# Altium integrated library ArgoFC.IntLib: 104 symbols (part 2 of 2)
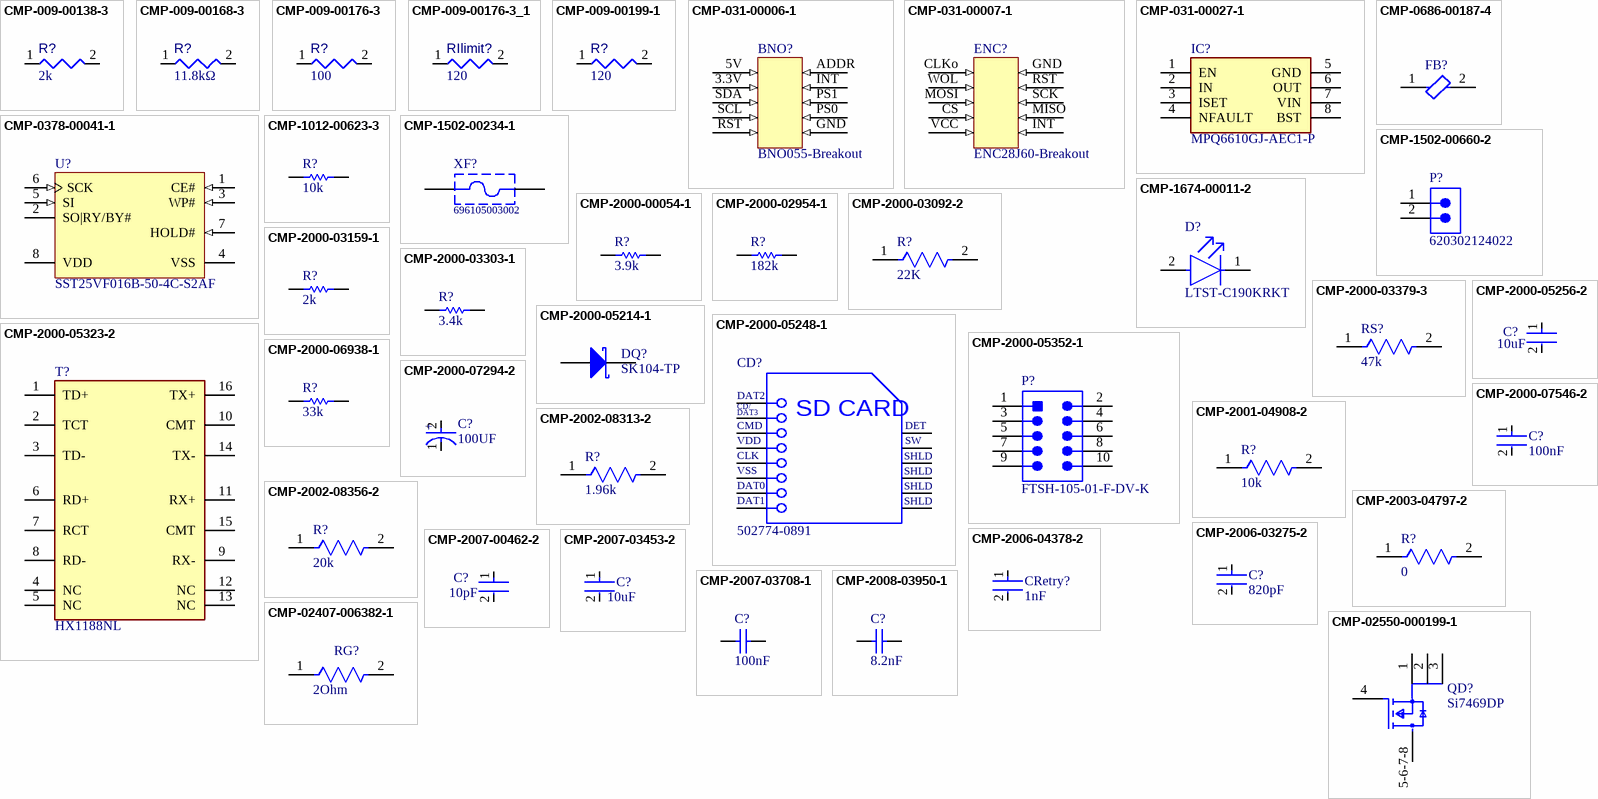
[diagram p3: symbols CMP-009-00138-3 to CMP-02550-000199-1]

## CMP-2002-08356-2
designator R?, comment 20k
RES Thick Film, 20kΩ, 1%, 0.063W, 100ppm/°C, 0402; Max Power Dissipation: 63mW; Working Voltage: 50V; Resistance: 20kR; Contact Plating: Tin; Packaging: Tape and Reel; Height: 0.35mm; Case Code (Imperial): 0402; Tolerance: 1%; Width: 0.5mm; Composition: Thick Film; Mount: Surface Mount; Termination: SMD/SMT; Number of Pins: 2; Number of Terminations: 2; Length: 1mm; Temperature Coefficient: 100ppm/°C; Case Code (Metric): 1005; Voltage Rating: 50V; Lead Free: Lead Free; Voltage Rating (DC): 50V; Min Operating Temperature: -55°C; Max Operating Temperature: 155°C; Package Quantity: 10; Radiation Hardening: No; Weight: 2.3E-05oz; Military Standard: Not; Case/Package: 0402; Power Rating: 63mW; Depth: 0.5mm; Features: Automotive AEC-Q200
footprint FP-CRCW0402-e3-IPC_B
footprint FP-CRCW0402-e3-IPC_A
footprint FP-CRCW0402-e3-IPC_C
footprint FP-CRCW0402-e3-MFG
pins: 1, 2

## CMP-2003-04797-2
designator R?, comment 0
RES Thick Film, 0Ω, 0.25W, 1206; Voltage Rating: 200V; Power Rating: 250mW; Resistance: 0mR; Depth: 1.6mm; Case/Package: 1206; Termination: SMD/SMT; Military Standard: Not; Length: 3.2mm; Height: 0.024inch; Number of Terminations: 2; Case Code (Metric): 3216; Width: 0.063inch; Features: Automotive AEC-Q200; Max Operating Temperature: 155°C; Min Operating Temperature: -55°C; Voltage Rating (DC): 200V; Contact Plating: Tin; Max Power Dissipation: 250mW; Radiation Hardening: No; Packaging: Tape and Reel; Package Quantity: 10000; Composition: Thick Film; Weight: 0.000353oz; Case Code (Imperial): 1206; Lead Free: Lead Free
footprint FP-CRCW1206-e3-MFG
footprint FP-CRCW1206-e3-IPC_B
footprint FP-CRCW1206-e3-IPC_C
footprint FP-CRCW1206-e3-IPC_A
pins: 1, 2

## CMP-2006-03275-2
designator C?, comment 820pF
C0603C 820pF Ceramic Multilayer Capacitor; 50 VDC; +125degC; X7R Dielec; +/-10%; Manufacturer Part Number: C0603C821K5RACTU; Manufacturer: KEMET; Voltage Rating: 50 V; Tolerance: 0.1; Automotive Grade: Grade 1; Temperature Coefficient: 30ppm/°C; Material: Ceramic; Temperature: -55°C to +125°C; Value: 820 pF; Temperature Range High: +125°C; ComponentLink2URL: https://api.kemet.com/component-edge/download/datasheet/C0603C100J5GACAUTO.pdf; Digikey Description: C0603C 820pF Ceramic Multilayer Capacitor; 50 VDC; +125degC; X7R Dielec; +/-10%; Mouser Description: C0603C 820pF Ceramic Multilayer Capacitor, 50 VDC, +125degC, X7R Dielec, +/-10%; Temperature Range Low: -55°C; Height: 0.87mm; Octopart: https://octopart.com/c0603c821k5ractu-kemet-129686; Capacitance: 820 pF; Package: C0603C-CF; RoHS: TRUE; Device Class L1: Passive Components; ComponentLink2Description: Datasheet; Automotive: Yes; Device Class L3: Ceramic Capacitors; Device Class L2: Capacitors; Category: Cap; Temperature Characteristic: X7R; Lead Free: Yes
footprint FP-C0603C-CF-MFG
footprint FP-C0603C-CF-IPC_C
footprint FP-C0603C-CF-IPC_B
footprint FP-C0603C-CF-IPC_A
pins: 1, 2

## CMP-2006-04378-2
designator CRetry?, comment 1nF
General Purpose Ceramic Capacitor, 0603, 1nF, 10%, X7R, 15%, 50V; Case Code (Metric): 1608; Min Operating Temperature: -55°C; Weight: 7.1E-05oz; Series: -; Capacitance: 1nF; RoHS Compliant: Yes; Radiation Hardening: No; Height: 0.9mm; Mount: Surface Mount; REACH SVHC: No SVHC; Lead Free: Lead Free; Depth: 0.81mm; Voltage: 50V; Number of Pins: 2; Voltage Rating: 50V; Max Operating Temperature: 125°C; Termination: SMD/SMT; Construction: Flat; Case Code (Imperial): 0603; Dielectric: X7R; Width: 0.032inch; Tolerance: 10%; Case/Package: 0603; Contact Plating: Tin; Packaging: Tape and Reel; Voltage Rating (DC): 50V; Dielectric Material: Ceramic; Package Quantity: 4000; Thickness: 0.035inch; Length: 1.6mm
footprint FP-0603-L_1_6_0_15-W_0_81-IPC_A
footprint FP-0603-L_1_6_0_15-W_0_81-MFG
footprint FP-0603-L_1_6_0_15-W_0_81-IPC_B
footprint FP-0603-L_1_6_0_15-W_0_81-IPC_C
pins: 1, 2

## CMP-2007-00462-2
designator C?, comment 10pF
CAP CER 10PF 50V 10% NP0 0805C0805C100K5GACTU; Manufacturer: KEMET; Temperature Characteristic: C0G; Material: Ceramic; Temperature Coefficient: 30ppm/°C; Tolerance: 0.1; Package: C0805C-DN; Device Class L2: Capacitors; Mouser Description: Multilayer Ceramic Capacitors MLCC - SMD/SMT 50volts 10pF C0G 10%; ComponentLink2URL: https://content.kemet.com/datasheets/KEM_C1003_C0G_SMD.pdf; Automotive: No; Device Class L3: Ceramic Capacitors; Temperature: -55°C to +125°C; Manufacturer Part Number: C0805C100K5GACTU; Digikey Description: CAP CER 10PF 50V 10% NP0 0805; RoHS: TRUE; Temperature Range High: +125°C; Value: 10 pF; Capacitance: 10 pF; Category: Cap; Voltage Rating: 50 V; Octopart: https://octopart.com/c0805c100k5gactu-kemet-8089747; Height: 0.88mm; Lead Free: Yes; Ipc Land Pattern Name: CAPC200125X78; Temperature Range Low: -55°C; Device Class L1: Passive Components; ComponentLink2Description: Datasheet
footprint FP-C0805C-DN-MFG
footprint FP-C0805C-DN-IPC_C
footprint FP-C0805C-DN-IPC_B
footprint FP-C0805C-DN-IPC_A
pins: 1, 2

## CMP-2007-03453-2
designator C?, comment 10uF
Chip Multilayer Ceramic Capacitors for General Purpose, 0805, 10uF, X5R, 15%, 10%, 25V; Voltage Rating (DC): 16V; Radiation Hardening: No; Thickness: 0.053inch; Lead Free: Lead Free; Package Quantity: 1; Width: 1.25mm; Case Code (Imperial): 0805; Depth: 1.25mm; Packaging: Tape and Reel; Dielectric: X5R; Max Operating Temperature: 85°C; Tolerance: 10%; Voltage Rating: 16V; Voltage: 16V; Capacitance: 10uF; Height: 1.25mm; Case Code (Metric): 2012; Material: Ceramic; Mount: Surface Mount; Case/Package: 0805; REACH SVHC: No SVHC; Length: 2mm; Min Operating Temperature: -55°C; Termination: SMD/SMT
footprint FP-GRM21B-0_1-IPC_C
footprint FP-GRM21B-0_1-MFG
footprint FP-GRM21B-0_1-IPC_A
footprint FP-GRM21B-0_1-IPC_B
pins: 1, 2

## CMP-2007-03708-1
designator C?, comment 100nF
C0805F103K5RACTU 10000 pF ±10% 50V Ceramic Capacitor X7R 0805 (2012 Metric); Manufacturer: Kemet; Part Number: C0805F103K5RACTU
footprint CAPC2013X100X50NL20T25 (Chip Capacitor, 2-Leads, Body 2.00x1.25mm, IPC Medium Density)
footprint CAPC2013X100X50LL20T25 (Chip Capacitor, 2-Leads, Body 2.00x1.25mm, IPC High Density)
footprint CAPC2013X100X50ML20T25 (Chip Capacitor, 2-Leads, Body 2.00x1.25mm, IPC Low Density)
pins: 1, 2
1 alternate drawing of the same symbol

## CMP-2008-03950-1
designator C?, comment 8.2nF
GRM155R71C822KA01D 0402  8.2nF; Manufacturer: Murata; Part Number: GRM155R71C822KA01D
footprint CAPC1005X55X25NL05T10 (Chip Capacitor, 2-Leads, Body 1.00x0.50mm, IPC Medium Density)
footprint CAPC1005X55X25LL05T10 (Chip Capacitor, 2-Leads, Body 1.00x0.50mm, IPC High Density)
footprint CAPC1005X55X25ML05T10 (Chip Capacitor, 2-Leads, Body 1.00x0.50mm, IPC Low Density)
pins: 1, 2
1 alternate drawing of the same symbol

## CMP-02407-006382-1
designator RG?, comment 2Ohm
RES Thick Film, 2Ω, 5%, 1W, 200ppm/°C, 2512; Voltage Rating (DC): 500V; Resistance: 2R; Max Power Dissipation: 1W; Case Code (Imperial): 2512; Depth: 3.15mm; Tolerance: 5%; Temperature Coefficient: 200ppm/°C; Lead Free: Lead Free; Length: 6.3mm; Number of Pins: 2; Military Standard: Not; Min Operating Temperature: -55°C; Height: 0.6mm; Packaging: Tape and Reel; Contact Plating: Tin; Power Rating: 1W; Number of Terminations: 2; Package Quantity: 1; Weight: 0.001429oz; Case Code (Metric): 6432; Termination: SMD/SMT; Features: Automotive AEC-Q200; Radiation Hardening: No; Case/Package: 2512; Composition: Thick Film; Voltage Rating: 500V; Width: 0.124inch; Max Operating Temperature: 155°C
footprint FP-CRCW2512-e3-IPC_C
footprint FP-CRCW2512-e3-MFG
footprint FP-CRCW2512-e3-IPC_A
footprint FP-CRCW2512-e3-IPC_B
pins: 1, 2

## CMP-02550-000199-1
designator QD?, comment Si7469DP
Use Si7469DP For PCBA. MOSFET P-CH 40V 11A PPAK SO-8; Manufacturer: Vishay; Manufacturer Part Number: SI7463DP-T1-E3; Depletion Mode: False; Number Of Channels: 1; Pulse Drain Current: -60A; Typ Forward Diode Voltage: -0.8V; Drain To Source Voltage: -40V; Rthja Max: 52°C/W; Turn On Delay Time: 20ns; Continuous Drain Current: -11A; Max Junction Temp: +150°C; Gate Charge At Vgs: 121nC @ -10V; Max Forward Diode Voltage: -1.2V; Reverse Recovery Time: 45ns; Gate To Source Voltage: 20V; Threshold Vgs Min: -1V; Standoff Height: 0mm; Turn Off Delay Time: 200ns; Threshold Vgs Max: -3V; Transconductance: 50S; Drain To Source Resistance: 0.0075Ω; Power Dissipation: 1.9W; Temperature Range Low: -55°C; Lead Free: Yes; Device Class L3: MOSFETs; Automotive: No; Digikey Description: MOSFET P-CH 40V 11A PPAK SO-8; ComponentLink2Description: Datasheet; Octopart: https://octopart.com/si7463dp-t1-e3-vishay-42065245; Number Of P Channels: 1; Device Class L1: Discrete Semiconductors; ComponentLink2URL: http://www.vishay.com/docs/72440/si7463dp.pdf; Device Class L2: Transistors; RoHS: TRUE; Category: Trans; Mouser Description: MOSFET 40V 18.6A 5.4W 9.2mohm @ 10V; Package: S17-0173-SINGLE; Height: 1.17mm; Temperature Range High: +150°C; Temperature: -55°C to +150°C
footprint FP-S17-0173-SINGLE-MFG
pins: 1 S, 2 S, 3 S, 4 G, 5-6-7-8 D

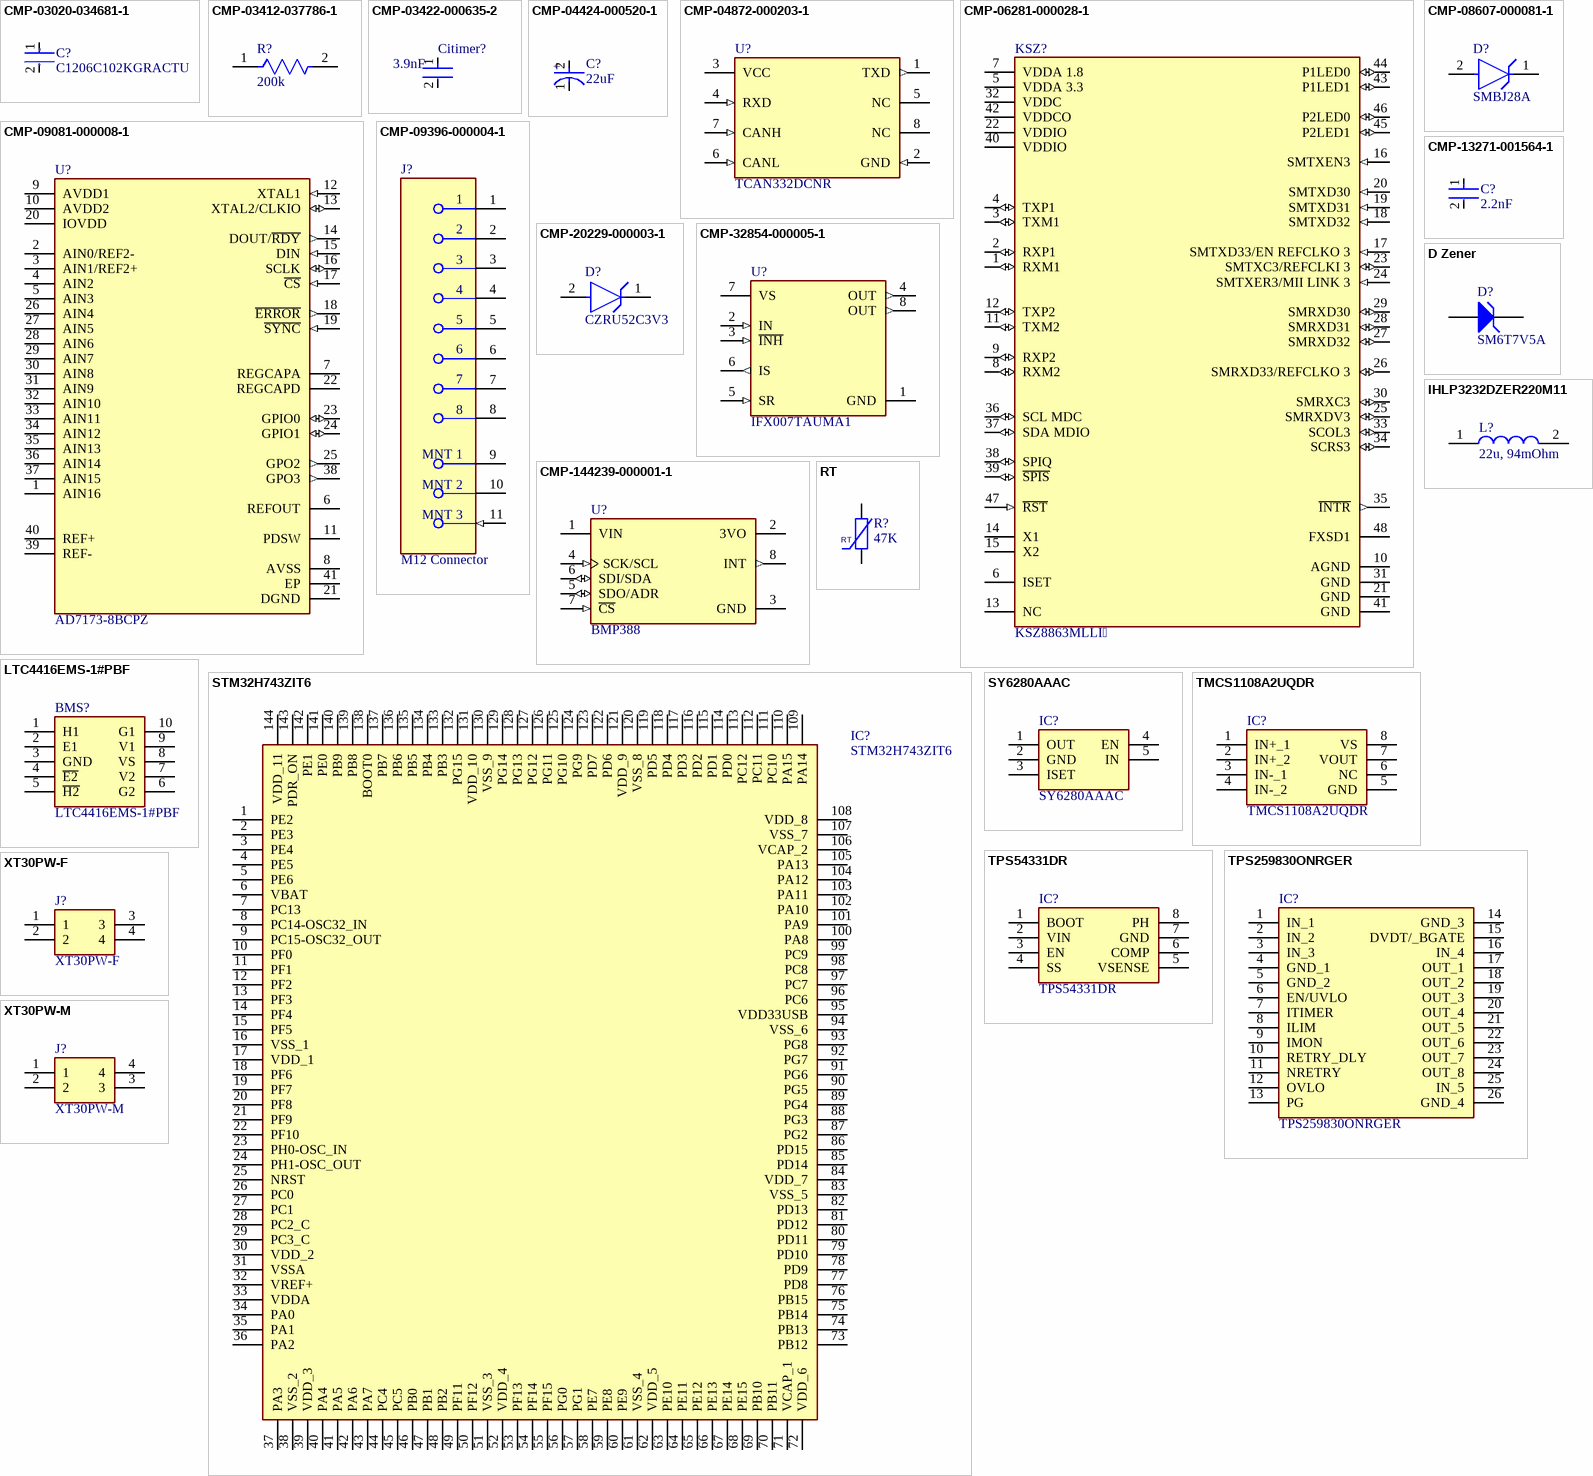
[diagram p2: symbols CMP-03020-034681-1 to XT30PW-M]

## CMP-03020-034681-1
designator C?, comment C1206C102KGRACTU
CAP CER 1000PF 2KV X7R 1206; Tolerance: 10%; Capacitance: 1nF; Dissipation Factor: 2.5%; Dielectric Material: Ceramic; Voltage Rating (DC): 2.5kV; Voltage: 2kV; REACH SVHC: No SVHC; Height: 1.6mm; Construction: Flat; Case/Package: 1206; Series: C; Mount: Surface Mount; RoHS Compliant: Yes; Package Quantity: 1; Length: 3.2mm; Width: 0.063inch; Voltage Rating: 2kV; Min Operating Temperature: -55°C; Case Code (Metric): 3216; Termination: SMD/SMT; Number of Pins: 2; Case Code (Imperial): 1206; Packaging: Tape and Reel; Dielectric: X7R; Thickness: 0.069inch; Depth: 1.6mm; Radiation Hardening: No; Max Operating Temperature: 125°C
footprint FP-C1206C-EF-MFG
footprint FP-C1206C-EF-IPC_C
footprint FP-C1206C-EF-IPC_B
footprint FP-C1206C-EF-IPC_A
pins: 1, 2

## CMP-03412-037786-1
designator R?, comment 200k
RES SMD 200K OHM 1% 1/10W 0603; Temperature Coefficient: 100ppm/°C; Voltage Rating: 50V; Resistance: 200kR; Max Power Dissipation: 100mW; Packaging: Tape and Reel; REACH SVHC: No SVHC; Resistance Tolerance: 1%; Number of Pins: 2; Width: 0.031inch; Termination: SMD/SMT; Features: Moisture Resistant; Tolerance: 1%; Series: RC; Case Code (Imperial): 0603; Depth: 0.8mm; Number of Terminations: 2; Max Operating Temperature: 155°C; Resistor Type: Thick Film; Height: 0.022inch; Lead Free: Lead Free; Construction: Rectangular; Case/Package: 0603; Power Rating: 100mW; Case Code (Metric): 1608; Length: 1.6mm; Size Code: 0603; RoHS Compliant: Yes; Military Standard: Not; Min Operating Temperature: -55°C; Package Quantity: 1; Voltage Rating (DC): 50V
footprint FP-RC0603-0_55-IPC_B
footprint FP-RC0603-0_55-MFG
footprint FP-RC0603-0_55-IPC_A
footprint FP-RC0603-0_55-IPC_C
pins: 1, 2

## CMP-03422-000635-2
designator Citimer?, comment 3.9nF
CAP CER 3900PF 50V X7R 0603; Tolerance: 10%; Dielectric Material: Ceramic; Insulation Resistance: 100GR; Height: 0.8mm; Voltage Rating: 50V; Termination: SMD/SMT; REACH SVHC: No SVHC; Resistor Type: Ceramic; Radiation Hardening: No; Case Code (Imperial): 0603; Voltage: 50V; Series: CC; Mount: Surface Mount; Length: 1.6mm; RoHS Compliant: Yes; Lead Free: Lead Free; Capacitance: 3.9nF; Width: 0.8mm; Package Quantity: 4000; Packaging: Tape and Reel; Dielectric: X7R; Voltage Rating (DC): 50V; Min Operating Temperature: -55°C; Depth: 0.8mm; Halogen Free: Halogen Free; Case/Package: 0603; Thickness: 0.035inch; Number of Pins: 2; Max Operating Temperature: 125°C; Case Code (Metric): 1608; Construction: Flat
footprint FP-CC0603-DA-MFG
footprint FP-CC0603-DA-IPC_B
footprint FP-CC0603-DA-IPC_A
footprint FP-CC0603-DA-IPC_C
pins: 1, 2

## CMP-04424-000520-1
designator C?, comment 22uF
22uF 20V  ±10% 1.8Ω 1210  SMD Tantalum Capacitor     TAJB226K020RNJ; Polarity: Polar; ESR (Equivalent Series Resistance): 1.8R; Leakage Current: 4.4uA; Dissipation Factor: 6%; Tolerance: 10%; Voltage Rating (DC): 20V; Dielectric Material: Tantalum; Mount: Surface Mount; Width: 2.8mm; Termination: SMD/SMT; Min Operating Temperature: -55°C; Case Code (Imperial): 1210; Height: 1.9mm; Series: TAJ; Capacitance: 22uF; Voltage: 20V; Depth: 2.8mm; RoHS Compliant: Yes; Lead Free: Lead Free; Height - Seated (Max): 0.083inch; Packaging: Tape and Reel; Case Code (Metric): 3528; Number of Pins: 2; REACH SVHC: No SVHC; Package Quantity: 1; Construction: Flat; Radiation Hardening: No; Features: General Purpose; Max Operating Temperature: 125°C; Case/Package: 1210; Voltage Rating: 20V; Length: 3.5mm
footprint FP-TAJB-MFG
pins: 1 C, 2 A
text: +

## CMP-04872-000203-1
designator U?, comment TCAN332DCNR
IC TRANSCEIVER 1/1 SOT23-8; Receiver Hysteresis: 120mV; Packaging: Tape and Reel; Mount: Surface Mount; RoHS Compliant: Yes; Min Operating Temperature: -40°C; Case/Package: SOT-23-8; Lead Free: Lead Free; Max Operating Temperature: 125°C
footprint FP-DCN0008A-IPC_A
footprint FP-DCN0008A-MFG
footprint FP-DCN0008A-IPC_C
footprint FP-DCN0008A-IPC_B
pins: 1 TXD (out), 2 GND (in), 3 VCC (power), 4 RXD (in), 5 NC, 6 CANL (in), 7 CANH (in), 8 NC

## CMP-06281-000028-1
designator KSZ?, comment KSZ8863MLLI
IC ETHERNET SWITCH 3PORT 48-LQFP; Max Supply Voltage: 3.465V; Max Supply Current: 112mA; Nominal Supply Current: 85mA; Interface: I2C; Min Supply Voltage: 1.71V; Number of Functions: 3; Operating Supply Voltage: 3.3V; Number of Transceivers: 1; Data Rate: 100Mbps; Max Operating Temperature: 85°C; Height: 1.3mm; Length: 7.1mm; Min Operating Temperature: -40°C; RoHS Compliant: Yes; Width: 7.1mm; Mount: Surface Mount; Series: -; Package Quantity: 250; Supply Current: 85mA; REACH SVHC: No SVHC; Lead Free: Lead Free; Number of Ports: 3; Number of Pins: 48; Supply Voltage-Nom: 3.3V; Radiation Hardening: No; Packaging: Tray; Case/Package: LQFP
footprint FP-LQFP7x7-48LD-PL-1-MFG
footprint FP-LQFP7x7-48LD-PL-1-IPC_C
footprint FP-LQFP7x7-48LD-PL-1-IPC_B
footprint FP-LQFP7x7-48LD-PL-1-IPC_A
pins: 1 RXM1 (io), 2 RXP1 (io), 3 TXM1 (io), 4 TXP1 (io), 5 VDDA 3.3 (power), 6 ISET, 7 VDDA 1.8 (power), 8 RXM2 (io), 9 RXP2 (io), 10 AGND (power), 11 TXM2 (io), 12 TXP2 (io), 13 NC, 14 X1, 15 X2, 16 SMTXEN3 (in), 17 SMTXD33/EN REFCLKO 3 (in), 18 SMTXD32 (in), 19 SMTXD31 (in), 20 SMTXD30 (in), 21 GND (power), 22 VDDIO (power), 23 SMTXC3/REFCLKI 3 (io), 24 SMTXER3/MII LINK 3 (in), 25 SMRXDV3 (io), 26 SMRXD33/REFCLKO 3 (io), 27 SMRXD32 (io), 28 SMRXD31 (io), 29 SMRXD30 (io), 30 SMRXC3 (io), 31 GND (power), 32 VDDC (power), 33 SCOL3 (io), 34 SCRS3 (io), 35 ~{INTR} (out), 36 SCL MDC (io), 37 SDA MDIO (io), 38 SPIQ (io), 39 ~{SPIS} (io), 40 VDDIO (power), 41 GND (power), 42 VDDCO (power), 43 P1LED1 (io), 44 P1LED0 (io), 45 P2LED1 (io), 46 P2LED0 (io), 47 ~{RST} (in), 48 FXSD1

## CMP-08607-000081-1
designator D?, comment SMBJ28A
TVS DIODE 28V 45.4V DO214AA; Manufacturer: Littelfuse Inc; Breakdown Voltage: 31.1V; Direction: Unidirectional; Number Of Channels: 1; Peak Pulse Power: 600W; Max Junction Temp: +150°C; Peak Pulse Current: 13.3A; Temperature: -65°C to +150°C; Category: Diode; RoHS: TRUE; Height: 2.61mm; Reverse Standoff Voltage: 28V; Device Class L1: Circuit Protection; Temperature Range Low: -65°C; ComponentLink2Description: Datasheet; Digikey Description: TVS DIODE 28V 45.4V DO214AA; Automotive: No; Package: SMBJ; Mouser Description: Littelfuse SMBJ28A, Uni-Directional TVS Diode, 600W, 2-Pin DO-214AA; ComponentLink2URL: https://www.littelfuse.com/~/media/electronics/datasheets/tvs_diodes/littelfuse_tvs_diode_smbj_datasheet.pdf.pdf; Manufacturer Part Number: SMBJ28A; Octopart: https://octopart.com/smbj28a-littelfuse-350790; Clamping Voltage: 45.4V; Temperature Range High: +150°C; Device Class L3: unset; Device Class L2: TVS Diodes; Lead Free: Yes
footprint FP-SMBJ-MFG
pins: 1 C, 2 A

## CMP-09081-000008-1
designator U?, comment AD7173-8BCPZ
IC ADC 24BIT SIGMA-DELTA 40LFCSP; Max Power Dissipation: 28mW; Interface: SPI; Number of A/D Converters: 1; Min Input Voltage: 2.5V; Max Supply Voltage: 5.5V; Min Supply Voltage: 2V; Operating Supply Voltage: 5V; Nominal Supply Current: 2.12mA; Number of Channels: 16; Number of Bits: 24; Output Type: TTL; Power Dissipation: 9.96mW; Sampling Rate: 31.25KS/s; Supply Type: Single; Polarity: Bipolar; Resolution: 24b; Number of Pins: 40; Max Input Voltage: 2.5V; Reference Voltage: 2.5V; Package Quantity: 490; Packaging: Tray; Lead Free: Contains Lead; Min Operating Temperature: -40°C; Mount: Surface Mount; Max Operating Temperature: 105°C; Length: 6.1mm; Contact Plating: Tin; Number of Converters: 1; Case/Package: LFCSP EP; Height: 0.75mm; Width: 6.1mm; Number of Elements: 1; REACH SVHC: No SVHC
footprint FP-CP-40-14-IPC_C
footprint FP-CP-40-14-IPC_B
footprint FP-CP-40-14-IPC_A
pins: 1 AIN16, 2 AIN0/REF2-, 3 AIN1/REF2+, 4 AIN2, 5 AIN3, 6 REFOUT, 7 REGCAPA, 8 AVSS (power), 9 AVDD1 (power), 10 AVDD2 (power), 11 PDSW, 12 XTAL1 (in), 13 XTAL2/CLKIO (io), 14 DOUT/~{RDY} (out), 15 DIN (in), 16 SCLK (io), 17 ~{CS} (in), 18 ~{ERROR} (out), 19 ~{SYNC} (in), 20 IOVDD (power), 21 DGND (power), 22 REGCAPD, 23 GPIO0 (io), 24 GPIO1 (io), 25 GPO2 (out), 26 AIN4, 27 AIN5, 28 AIN6, 29 AIN7, 30 AIN8, 31 AIN9, 32 AIN10, 33 AIN11, 34 AIN12, 35 AIN13, 36 AIN14, 37 AIN15, 38 GPO3 (out), 39 REF-, 40 REF+, 41 EP

## CMP-09396-000004-1
designator J?, comment M12 Connector
CONN RCPT FMALE 8POS GOLD SOLDER; Number of Positions: 8; Voltage Rating: 48V; Ratings: IP67; Current Rating: 500mA; Gender: Female; Wire/Cable Diameter: 6mm; Connector Type: Receptacle; Fastening Type: Twist; Packaging: Bulk; Housing Material: Zinc; Contact Plating: Gold; Lead Free: Lead Free; REACH SVHC: No SVHC; Orientation: Straight; Max Operating Temperature: 70°C; Mount: Panel; Number of Contacts: 8; Termination: Solder; Series: PLUSCON; Min Operating Temperature: -40°C; Thread Size: M12; Package Quantity: 20; Contact Gender: Female
footprint FP-1424177-MFG
pins: 1, 2, 3, 4, 5, 6, 7, 8, 9 MNT 1, 10 MNT 2, 11 MNT 3 (in)

## CMP-13271-001564-1
designator C?, comment 2.2nF
CL21 Series 0805 2.2nF 50V ±5% Tolerance C0G Multilayer Ceramic Chip Capacitor CL21C222JBFNNNE; Mount: Surface Mount; Packaging: Tape and Reel; Tolerance: 5%; Thickness: 0.053inch; Case Code (Imperial): 0805; Capacitance: 2.2nF; Min Operating Temperature: -55°C; Width: 0.049inch; Package Quantity: 2000; Depth: 1.25mm; Radiation Hardening: No; Voltage Rating (DC): 50V; Case/Package: 0805; Voltage: 50V; Max Operating Temperature: 125°C; Case Code (Metric): 2012; Voltage Rating: 50V; Length: 2mm; Dielectric: C0G; Height: 1.25mm; Lead Free: Lead Free
footprint FP-CL21-IPC_C
footprint FP-CL21-IPC_A
footprint FP-CL21-IPC_B
pins: 1, 2

## CMP-20229-000003-1
designator D?, comment CZRU52C3V3
DIODE ZENER 3.3V 150MW 0603; Zener Current: 5mA; Tolerance: 5%; Output Current: 500mA; Impedance: 95R; Element Configuration: Single; Max Reverse Leakage Current: 25uA; Max Operating Temperature: 125°C; Max Power Dissipation: 150mW; Power Rating: 150mW; Lead Free: Lead Free; Mount: Surface Mount; Packaging: Tape and Reel; Voltage Tolerance: 5%; Power Dissipation: 150mW; Zener Voltage: 3.3V; Min Operating Temperature: -55°C; Case/Package: SMD/SMT; Voltage Rating (DC): 3.3V; Package Quantity: 1
footprint FP-0603-SOD-523F-MFG
pins: 1 C, 2 A

## CMP-32854-000005-1
designator U?, comment IFX007TAUMA1
IC HALF-BRIDGE DRVR 2 CH TO263; Manufacturer: Infineon; Number Of Outputs: 1; Nominal Supply Current: 2.3mA; Min Supply Voltage: 8V; Standoff Height: 0.1mm; Max Junction Temp: +150°C; Max Supply Voltage: 40V; Temperature: -40°C to +150°C; ComponentLink2Description: Datasheet; Category: IC; Mouser Description: integrated high current half bridge for motor drive applications; Automotive: No; Digikey Description: IC HALF-BRIDGE DRVR 2 CH TO263; Height: 4.5mm; Package: PG-TO263-7; ComponentLink2URL: https://www.infineon.com/dgdl/Infineon-IFX007T-DS-v01_00-EN.pdf?fileId=5546d46265f064ff0166433484070b75; RoHS: TRUE; Device Class L3: Motor Drivers; Manufacturer Part Number: IFX007TAUMA1; Device Class L2: Power Management ICs; Temperature Range Low: -40°C; Lead Free: Yes; Footprint Url: https://www.infineon.com/cms/en/product/packages/PG-TO263/PG-TO263-7-1/; Octopart: https://octopart.com/ifx007tauma1-infineon-94578162; Temperature Range High: +150°C; Device Class L1: Integrated Circuits (ICs)
footprint FP-PG-TO263-7-MFG
pins: 1 GND (power), 2 IN (in), 3 ~{INH} (in), 4 OUT (out), 5 SR (in), 6 IS (out), 7 VS (power), 8 OUT (out)

## CMP-144239-000001-1
designator U?, comment BMP388
BMP388 - PRECISION BAROMETRIC PR
footprint FP-3966-MFG
pins: 1 VIN (power), 2 3VO (power), 3 GND (power), 4 SCK/SCL (in), 5 SDO/ADR (io), 6 SDI/SDA (io), 7 ~{CS} (in), 8 INT (out)

## D Zener
designator D?, comment SM6T7V5A
Zener Diode; Published: 8-Jun-2000; LatestRevisionDate: 17-Jul-2002; LatestRevisionNote: Re-released for DXP Platform.; PackageReference: SMB; Publisher: Altium Limited; PackageDescription: SMB
footprint SMB (DO-214-AA/SMB; 2 C-Bend Leads; Body 5.3 x 3.6 mm, inc. leads (LxW))
simulation model ZENER (Diode)
signal-integrity model D Zener
pins: 1 A, 2 K

## IHLP3232DZER220M11
designator L?, comment 22u, 94mOhm
Inductor， IHLP3232DZER220M11, 3.3A sat; Manufacturer_Name: Vishay; Datasheet Link: http://uk.rs-online.com/web/p/products/8523797; Height: 4mm; Manufacturer_Part_Number: IHLP3232DZER220M11; Mouser Part Number: 70-IHLP3232DZER220M1; Mouser Price/Stock: https://www.mouser.co.uk/ProductDetail/Vishay-Dale/IHLP3232DZER220M11?qs=Nbmv7C3%2FzlDWnanygNMaBQ%3D%3D; Arrow Part Number: IHLP3232DZER220M11; Arrow Price/Stock: https://www.arrow.com/en/products/ihlp3232dzer220m11/vishay?utm_currency=USD&region=nac
footprint INDPM8682X400N
pins: 1, 2

## LTC4416EMS-1#PBF
designator BMS?
Integrated Circuit; Manufacturer_Name: Analog Devices; Datasheet Link: https://www.analog.com/media/en/technical-documentation/data-sheets/4416fa.pdf; Height: 1.1mm; Manufacturer_Part_Number: LTC4416EMS-1#PBF; Mouser Part Number: 584-LTC4416EMS-1#PBF; Mouser Price/Stock: https://www.mouser.co.uk/ProductDetail/Analog-Devices/LTC4416EMS-1PBF?qs=hVkxg5c3xu9mDay6QbsUoQ%3D%3D; Arrow Part Number: LTC4416EMS-1#PBF; Arrow Price/Stock: https://www.arrow.com/en/products/ltc4416ems-1pbf/analog-devices?region=nac
footprint SOP50P490X110-10N
pins: 1 H1, 2 E1, 3 GND, 4 ~{E2}, 5 ~{H2}, 6 G2, 7 V2, 8 VS, 9 V1, 10 G1

## RT
designator R?, comment 47K
热敏电阻; BOM名称: 压敏电阻; 版权归属: 封装库来自淘宝 ID：黄晶宝石; 联系售后: https://item.taobao.com/item.htm?id=566775463719; 封装库来自淘宝卖家 ID：黄晶宝石: https://shop463601444.taobao.com
footprint R0805-HP_L (1/8W高精度贴片电阻)
footprint R0402-HP_L (1/16W高精度贴片电阻       淘宝ID:黄晶宝石)
pins: 1, 2

## STM32H743ZIT6
designator IC?
Integrated Circuit / https://www.allelcoelec.com/productdetails/STMicroelectronics/STM32H743ZIT6.html?gad_source=1&gad_campaignid=21002909653&gclid=CjwKCAjw4efDBhATEiwAaDBpbvLpcbmne3WKOXgEcIaqaVpz5lcgSvxb9vCyHUjI6dfgnmkW9JZCHhoCY-cQAvD_BwE; Datasheet Link: https://www.st.com/resource/en/datasheet/stm32h743zi.pdf; Height: 1.6mm; Manufacturer_Name: STMicroelectronics; Manufacturer_Part_Number: STM32H743ZIT6; Mouser Part Number: 511-STM32H743ZIT6; Mouser Price/Stock: https://www.mouser.co.uk/ProductDetail/STMicroelectronics/STM32H743ZIT6?qs=FNcb6ahWXRyuf15GdgTu%252Bw%3D%3D; Arrow Part Number: STM32H743ZIT6; Arrow Price/Stock: https://www.arrow.com/en/products/stm32h743zit6/stmicroelectronics?utm_currency=USD&region=nac
footprint QFP50P2200X2200X160-144N
pins: 1 PE2 (power), 2 PE3, 3 PE4, 4 PE5, 5 PE6, 6 VBAT, 7 PC13, 8 PC14-OSC32_IN, 9 PC15-OSC32_OUT, 10 PF0, 11 PF1, 12 PF2, 13 PF3, 14 PF4, 15 PF5, 16 VSS_1, 17 VDD_1, 18 PF6, 19 PF7, 20 PF8, 21 PF9, 22 PF10, 23 PH0-OSC_IN, 24 PH1-OSC_OUT, 25 NRST, 26 PC0, 27 PC1, 28 PC2_C, 29 PC3_C, 30 VDD_2, 31 VSSA, 32 VREF+, 33 VDDA, 34 PA0, 35 PA1, 36 PA2, 37 PA3, 38 VSS_2, 39 VDD_3, 40 PA4, 41 PA5, 42 PA6, 43 PA7, 44 PC4, 45 PC5, 46 PB0, 47 PB1, 48 PB2, 49 PF11, 50 PF12, 51 VSS_3, 52 VDD_4, 53 PF13, 54 PF14, 55 PF15, 56 PG0, 57 PG1, 58 PE7, 59 PE8, 60 PE9, 61 VSS_4, 62 VDD_5, 63 PE10, 64 PE11, 65 PE12, 66 PE13, 67 PE14, 68 PE15, 69 PB10, 70 PB11, 71 VCAP_1, 72 VDD_6, 73 PB12, 74 PB13, 75 PB14, 76 PB15, 77 PD8, 78 PD9, 79 PD10, 80 PD11, 81 PD12, 82 PD13, 83 VSS_5, 84 VDD_7, 85 PD14, 86 PD15, 87 PG2, 88 PG3, 89 PG4, 90 PG5, 91 PG6, 92 PG7, 93 PG8, 94 VSS_6, 95 VDD33USB, 96 PC6, 97 PC7, 98 PC8, 99 PC9, 100 PA8, 101 PA9, 102 PA10, 103 PA11, 104 PA12, 105 PA13, 106 VCAP_2, 107 VSS_7, 108 VDD_8, 109 PA14, 110 PA15, 111 PC10, 112 PC11, 113 PC12, 114 PD0, 115 PD1, 116 PD2, 117 PD3, 118 PD4, 119 PD5, 120 VSS_8, 121 VDD_9, 122 PD6, 123 PD7, 124 PG9, 125 PG10, 126 PG11, 127 PG12, 128 PG13, 129 PG14, 130 VSS_9, 131 VDD_10, 132 PG15, 133 PB3, 134 PB4, 135 PB5, 136 PB6, 137 PB7, 138 BOOT0, 139 PB8, 140 PB9, 141 PE0, 142 PE1, 143 PDR_ON, 144 VDD_11

## SY6280AAAC
designator IC?
Integrated Circuit; Manufacturer_Name: Silergy; Datasheet Link: https://datasheet.lcsc.com/szlcsc/Silergy-Corp-SY6280AAAC_C207620.pdf; Height: 1.4mm; Manufacturer_Part_Number: SY6280AAAC
footprint SOT95P285X140-5N
pins: 1 OUT, 2 GND, 3 ISET, 4 EN, 5 IN

## TMCS1108A2UQDR
designator IC?
Integrated Circuit, –2.8 A → 27.7 A / https://www.ti.com/lit/ds/symlink/tmcs1108-q1.pdf?HQS=dis-dk-null-digikeymode-dsf-pf-null-wwe&ts=1751879552762; Manufacturer_Name: Texas Instruments; Datasheet Link: https://www.ti.com/lit/ds/symlink/tmcs1108.pdf?HQS=dis-dk-null-digikeymode-dsf-pf-null-wwe&ts=1716768799776; Height: 1.75mm; Manufacturer_Part_Number: TMCS1108A2UQDR; Mouser Part Number: 595-TMCS1108A2UQDR; Mouser Price/Stock: https://www.mouser.co.uk/ProductDetail/Texas-Instruments/TMCS1108A2UQDR?qs=pUKx8fyJudDyYFsofofVeQ%3D%3D; Arrow Part Number: TMCS1108A2UQDR; Arrow Price/Stock: https://www.arrow.com/en/products/tmcs1108a2uqdr/texas-instruments?region=nac
footprint SOIC127P600X175-8N
pins: 1 IN+_1, 2 IN+_2, 3 IN-_1, 4 IN-_2, 5 GND, 6 NC, 7 VOUT, 8 VS

## TPS54331DR
designator IC?
Integrated Circuit; Manufacturer_Name: Texas Instruments; Datasheet Link: http://www.ti.com/lit/gpn/tps54331; Height: 1.75mm; Manufacturer_Part_Number: TPS54331DR; Mouser Part Number: 595-TPS54331DR; Mouser Price/Stock: https://www.mouser.co.uk/ProductDetail/Texas-Instruments/TPS54331DR?qs=QyYHynRG50rsSYcB%2Ftz4Yw%3D%3D; Arrow Part Number: TPS54331DR; Arrow Price/Stock: https://www.arrow.com/en/products/tps54331dr/texas-instruments?utm_currency=USD&region=nac
footprint SOIC127P600X175-8N
pins: 1 BOOT, 2 VIN, 3 EN, 4 SS, 5 VSENSE, 6 COMP, 7 GND, 8 PH

## TPS259830ONRGER
designator IC?
Integrated Circuit; Manufacturer_Name: Texas Instruments; Datasheet Link: https://www.ti.com/lit/gpn/tps25983; Height: 1mm; Manufacturer_Part_Number: TPS259830ONRGER; Mouser Part Number: 595-TPS259830ONRGER; Mouser Price/Stock: https://www.mouser.co.uk/ProductDetail/Texas-Instruments/TPS259830ONRGER?qs=ST9lo4GX8V2yYPVZTyti6w%3D%3D; Arrow Part Number: TPS259830ONRGER; Arrow Price/Stock: https://www.arrow.com/en/products/tps259830onrger/texas-instruments?utm_currency=USD&region=nac
footprint TPS259830ONRGER
pins: 1 IN_1, 2 IN_2, 3 IN_3, 4 GND_1, 5 GND_2, 6 EN/UVLO, 7 ITIMER, 8 ILIM, 9 IMON, 10 RETRY_DLY, 11 NRETRY, 12 OVLO, 13 PG, 14 GND_3, 15 DVDT/_BGATE, 16 IN_4, 17 OUT_1, 18 OUT_2, 19 OUT_3, 20 OUT_4, 21 OUT_5, 22 OUT_6, 23 OUT_7, 24 OUT_8, 25 IN_5, 26 GND_4

## XT30PW-F
designator J?
Connector; Manufacturer_Name: Amass; Datasheet Link: https://www.tme.eu/Document/ce4077e36b79046da520ca73227e15de/XT30PW%20SPEC.pdf; Height: 5mm; Manufacturer_Part_Number: XT30PW-F
footprint XT30PWF
pins: 1, 2, 3, 4

## XT30PW-M
designator J?
Connector; Manufacturer_Name: Amass; Datasheet Link: https://www.tme.eu/sl/Document/ce4077e36b79046da520ca73227e15de/XT30PW%20SPEC.pdf; Height: 5mm; Manufacturer_Part_Number: XT30PW-M
footprint XT30PWM
pins: 1, 2, 3, 4